# Altium schematic symbol library MAX30001GCWV+T.SchLib: 1 symbol
Pins are listed as number, name and electrical type; pins without a type are passive.

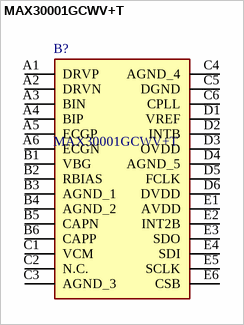
[diagram p0: symbol MAX30001GCWV+T]

## MAX30001GCWV+T
designator B?
Ultra-Low-Power, Single-Channel Integrated Biopotential (ECG and R-to-R) and Bioimpedance (Resp, GSR/EDA) AFE; Manufacturer_Name: Analog Devices; Geometry.Height: 0.69mm; Mouser Part Number: 700-MAX30001GCWV+T; Mouser Price/Stock: https://www.mouser.co.uk/ProductDetail/Analog-Devices-Maxim-Integrated/MAX30001GCWV%2bT?qs=doiCPypUmgEvmXjfoFk%2Flw%3D%3D; Manufacturer_Part_Number: MAX30001GCWV+T; Datasheet Link: https://www.analog.com/MAX30001G/datasheet
footprint BGA30C50P6X5_293X274X69
pins: A1 DRVP, A2 DRVN, A3 BIN, A4 BIP, A5 ECGP, A6 ECGN, B1 VBG, B2 RBIAS, B3 AGND_1, B4 AGND_2, B5 CAPN, B6 CAPP, C1 VCM, C2 N.C., C3 AGND_3, C4 AGND_4, C5 DGND, C6 CPLL, D1 VREF, D2 INTB, D3 OVDD, D4 AGND_5, D5 FCLK, D6 DVDD, E1 AVDD, E2 INT2B, E3 SDO, E4 SDI, E5 SCLK, E6 CSB